# Altium footprint library Common-Parts-Library.PcbLib: 530 footprints (part 24 of 34)
Each footprint in its own frame and in the unit in brackets; x right, y up, seen from the top. Pads: shape width x height; smd on the part's side, far side on the other; paste and mask are expansions set on the pad; w line width, h text height; cw(c..) or ccw(c..) is an arc to the next point about the centre after c.
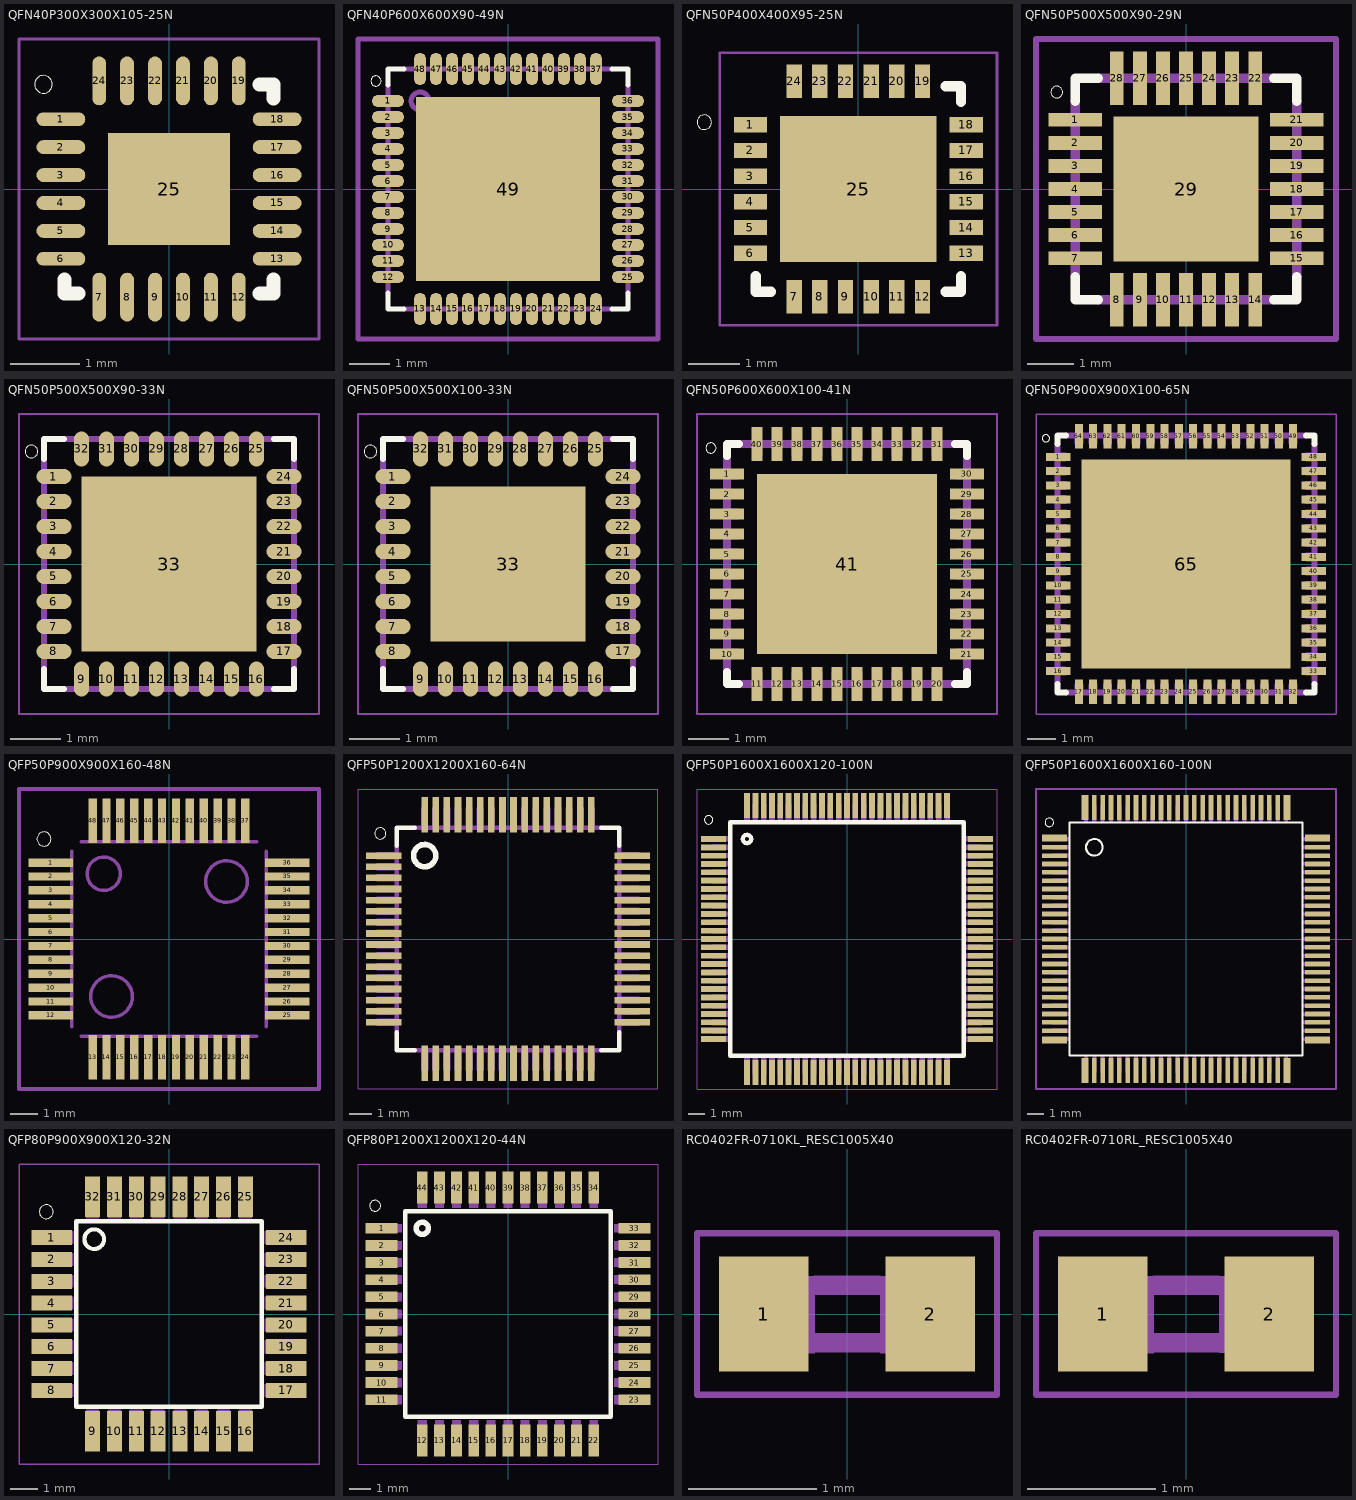
[diagram p23: the footprints below, top view; thin cyan lines are the x and y axes]

## QFN40P300X300X105-25N [mm]
pads (25):
  oval 0.7x0.2 smd: 1(-1.55,1) 2(-1.55,0.6) 3(-1.55,0.2) 4(-1.55,-0.2) 5(-1.55,-0.6) 6(-1.55,-1) 13(1.55,-1) 14(1.55,-0.6) 15(1.55,-0.2) 16(1.55,0.2) 17(1.55,0.6) 18(1.55,1)
  oval 0.2x0.7 smd: 7(-1,-1.55) 8(-0.6,-1.55) 9(-0.2,-1.55) 10(0.2,-1.55) 11(0.6,-1.55) 12(1,-1.55) 19(1,1.55) 20(0.6,1.55) 21(0.2,1.55) 22(-0.2,1.55) 23(-0.6,1.55) 24(-1,1.55)
  rect 1.75x1.6 smd: 25(0,0)
Top Overlay:
  circle w0: c-1.8,1.5 r0.127
  lines w0.2: -1.5,-1.3 -1.5,-1.5 -1.3,-1.5 ; 1.3,-1.5 1.5,-1.5 1.5,-1.3 ; 1.3,1.5 1.5,1.5 1.5,1.3
Top Paste:
  region: -0.576,0.475 0.575,0.475 0.575,-0.476 -0.576,-0.476
Mechanical 1:
  lines w0.05: -2.15,-2.15 -2.15,2.15 2.15,2.15 2.15,-2.15 -2.15,-2.15

## QFN40P600X600X90-49N [mm]
pads (49):
  oval 0.8x0.3 smd: 1(-3,2.2) 2(-3,1.8) 3(-3,1.4) 4(-3,1) 5(-3,0.6) 6(-3,0.2) 7(-3,-0.2) 8(-3,-0.6) 9(-3,-1) 10(-3,-1.4) 11(-3,-1.8) 12(-3,-2.2) 25(3,-2.2) 26(3,-1.8) 27(3,-1.4) 28(3,-1) 29(3,-0.6) 30(3,-0.2) 31(3,0.2) 32(3,0.6) 33(3,1) 34(3,1.4) 35(3,1.8) 36(3,2.2)
  oval 0.3x0.8 smd: 13(-2.2,-3) 14(-1.8,-3) 15(-1.4,-3) 16(-1,-3) 17(-0.6,-3) 18(-0.2,-3) 19(0.2,-3) 20(0.6,-3) 21(1,-3) 22(1.4,-3) 23(1.8,-3) 24(2.2,-3) 37(2.2,3) 38(1.8,3) 39(1.4,3) 40(1,3) 41(0.6,3) 42(0.2,3) 43(-0.2,3) 44(-0.6,3) 45(-1,3) 46(-1.4,3) 47(-1.8,3) 48(-2.2,3)
  rect 4.6x4.6 smd: 49(0,0)
Top Overlay:
  circle w0: c-3.3,2.7 r0.127
  lines w0.127: -3,-2.6 -3,-3 -2.6,-3 ; -3,2.6 -3,3 -2.6,3 ; 2.6,-3 3,-3 3,-2.6 ; 2.6,3 3,3 3,2.6
Top Paste:
  region: -1.454,1.45 1.45,1.45 1.45,-1.454 -1.454,-1.454
Top Solder:
  drawing of 48 lines, arcs and shapes, not listed
Mechanical 1:
  drawing of 57 lines, arcs and shapes, not listed

## QFN50P400X400X95-25N [mm]
pads (25):
  rect 0.65x0.3 smd: 1(-2.1,1.25) 2(-2.1,0.75) 3(-2.1,0.25) 4(-2.1,-0.25) 5(-2.1,-0.75) 6(-2.1,-1.25) 13(2.1,-1.25) 14(2.1,-0.75) 15(2.1,-0.25) 16(2.1,0.25) 17(2.1,0.75) 18(2.1,1.25)
  rect 0.3x0.65 smd: 7(-1.25,-2.1) 8(-0.75,-2.1) 9(-0.25,-2.1) 10(0.25,-2.1) 11(0.75,-2.1) 12(1.25,-2.1) 19(1.25,2.1) 20(0.75,2.1) 21(0.25,2.1) 22(-0.25,2.1) 23(-0.75,2.1) 24(-1.25,2.1)
  rect 3.05x2.85 smd: 25(0,0)
Top Overlay:
  circle w0: c-3,1.3 r0.141
  lines w0.2: -2,-1.7 -2,-2 -1.7,-2 ; 1.7,-2 2,-2 2,-1.7 ; 1.7,2 2,2 2,1.7
Top Paste:
  region: -0.992,0.89 0.99,0.89 0.99,-0.892 -0.992,-0.892
Mechanical 1:
  lines w0.05: -2.7,-2.65 -2.7,2.65 2.7,2.65 2.7,-2.65 -2.7,-2.65

## QFN50P500X500X90-29N [mm]
pads (29):
  rect 1.15x0.3 smd: 1(-2.4,1.5) 2(-2.4,1) 3(-2.4,0.5) 4(-2.4,0) 5(-2.4,-0.5) 6(-2.4,-1) 7(-2.4,-1.5) 15(2.4,-1.5) 16(2.4,-1) 17(2.4,-0.5) 18(2.4,0) 19(2.4,0.5) 20(2.4,1) 21(2.4,1.5)
  rect 0.3x1.15 smd: 8(-1.5,-2.4) 9(-1,-2.4) 10(-0.5,-2.4) 11(0,-2.4) 12(0.5,-2.4) 13(1,-2.4) 14(1.5,-2.4) 22(1.5,2.4) 23(1,2.4) 24(0.5,2.4) 25(0,2.4) 26(-0.5,2.4) 27(-1,2.4) 28(-1.5,2.4)
  rect 3.15x3.15 smd: 29(0,0)
Top Overlay:
  circle w0: c-2.8,2.1 r0.127
  lines w0.203: -2.398,-1.902 -2.398,-2.398 -1.902,-2.398 ; -2.398,1.902 -2.398,2.398 -1.902,2.398 ; 1.902,-2.398 2.398,-2.398 2.398,-1.902 ; 1.902,2.398 2.398,2.398 2.398,1.902
Top Paste:
  region: -1.003,1 1,1 1,-1.003 -1.003,-1.003
Top Solder:
  region: -1.7,1.775 -1.7,3.03 -1.305,3.03 -1.305,1.775
  region: -1.2,1.775 -1.2,3.027 -0.802,3.027 -0.802,1.775
  region: -0.7,1.775 -0.7,3.026 -0.301,3.026 -0.301,1.775
  region: -0.199,1.776 -0.199,3.028 0.197,3.028 0.197,1.776
  region: 0.304,1.779 0.304,3.029 0.696,3.029 0.696,1.779
  region: 0.802,1.777 0.802,3.026 1.199,3.026 1.199,1.777
  region: 1.303,1.778 1.303,3.026 1.699,3.026 1.699,1.778
  region: 3.025,-1.7 1.775,-1.7 1.775,-1.3 3.025,-1.3
  region: 3.025,-1.201 1.776,-1.201 1.776,-0.8 3.025,-0.8
  region: 3.025,-0.702 1.779,-0.702 1.779,-0.3 3.025,-0.3
  region: 3.025,-0.201 1.78,-0.201 1.78,0.2 3.025,0.2
  region: 3.025,0.3 1.776,0.3 1.776,0.7 3.025,0.7
  region: 3.025,0.802 1.779,0.802 1.779,1.2 3.025,1.2
  region: 3.025,1.303 1.779,1.303 1.779,1.7 3.025,1.7
  region: -1.704,-3.029 -1.704,-1.775 -1.3,-1.775 -1.3,-3.029
  region: -1.207,-3.032 -1.207,-1.777 -0.798,-1.777 -0.798,-3.032
  region: -0.707,-3.032 -0.707,-1.778 -0.297,-1.778 -0.297,-3.032
  region: -0.202,-3.027 -0.202,-1.776 0.201,-1.776 0.201,-3.027
  region: 0.298,-3.027 0.298,-1.777 0.702,-1.777 0.702,-3.027
  region: 0.798,-3.027 0.798,-1.778 1.203,-1.778 1.203,-3.027
  region: 1.298,-3.027 1.298,-1.779 1.704,-1.779 1.704,-3.027
  region: -3.027,1.7 -1.775,1.7 -1.775,1.301 -3.027,1.301
  region: -3.029,1.2 -1.775,1.2 -1.775,0.801 -3.029,0.801
  region: -3.03,0.7 -1.775,0.7 -1.775,0.3 -3.03,0.3
  region: -3.029,0.2 -1.775,0.2 -1.775,-0.2 -3.029,-0.2
  region: -3.034,-0.3 -1.775,-0.3 -1.775,-0.702 -3.034,-0.702
  region: -3.031,-0.8 -1.775,-0.8 -1.775,-1.203 -3.031,-1.203
  region: -3.034,-1.3 -1.775,-1.3 -1.775,-1.705 -3.034,-1.705
Mechanical 1:
  lines w0.127: -3.25,-3.25 -3.25,3.25 3.25,3.25 3.25,-3.25 -3.25,-3.25
  lines w0.203: -2.4,-1.9 -2.4,1.9 ; -1.9,-2.4 1.9,-2.4 ; -1.9,2.4 1.9,2.4 ; 2.4,-1.9 2.4,1.9

## QFN50P500X500X90-33N [mm]
pads (33):
  oval 0.7x0.3 smd: 1(-2.3,1.75) 2(-2.3,1.25) 3(-2.3,0.75) 4(-2.3,0.25) 5(-2.3,-0.25) 6(-2.3,-0.75) 7(-2.3,-1.25) 8(-2.3,-1.75) 17(2.3,-1.75) 18(2.3,-1.25) 19(2.3,-0.75) 20(2.3,-0.25) 21(2.3,0.25) 22(2.3,0.75) 23(2.3,1.25) 24(2.3,1.75)
  oval 0.3x0.7 smd: 9(-1.75,-2.3) 10(-1.25,-2.3) 11(-0.75,-2.3) 12(-0.25,-2.3) 13(0.25,-2.3) 14(0.75,-2.3) 15(1.25,-2.3) 16(1.75,-2.3) 25(1.75,2.3) 26(1.25,2.3) 27(0.75,2.3) 28(0.25,2.3) 29(-0.25,2.3) 30(-0.75,2.3) 31(-1.25,2.3) 32(-1.75,2.3)
  rect 3.5x3.5 smd: 33(0,0)
Top Overlay:
  circle w0: c-2.75,2.25 r0.127
  lines w0.127: -2.5,-2.1 -2.5,-2.5 -2.1,-2.5 ; -2.5,2.1 -2.5,2.5 -2.1,2.5 ; 2.1,-2.5 2.5,-2.5 2.5,-2.1 ; 2.1,2.5 2.5,2.5 2.5,2.1
Top Paste:
  region: -1.102,1.1 1.1,1.1 1.1,-1.102 -1.102,-1.102
Top Solder:
  lines w0.254: -2.499,-1.749 -2.099,-1.749 ; -2.499,-1.249 -2.099,-1.249 ; -2.499,-0.749 -2.099,-0.749 ; -2.499,-0.249 -2.099,-0.249 ; -2.499,0.251 -2.099,0.251 ; -2.499,0.751 -2.099,0.751 ; -2.499,1.251 -2.099,1.251 ; -2.499,1.751 -2.099,1.751 ; -1.749,-2.499 -1.749,-2.099 ; -1.749,2.101 -1.749,2.501 ; -1.249,-2.499 -1.249,-2.099 ; -1.249,2.101 -1.249,2.501 ; -0.749,-2.499 -0.749,-2.099 ; -0.749,2.101 -0.749,2.501 ; -0.249,-2.499 -0.249,-2.099 ; -0.249,2.101 -0.249,2.501 ; 0.251,-2.499 0.251,-2.099 ; 0.251,2.101 0.251,2.501 ; 0.751,-2.499 0.751,-2.099 ; 0.751,2.101 0.751,2.501 ; 1.251,-2.499 1.251,-2.099 ; 1.251,2.101 1.251,2.501 ; 1.751,-2.499 1.751,-2.099 ; 1.751,2.101 1.751,2.501 ; 2.101,-1.749 2.501,-1.749 ; 2.101,-1.249 2.501,-1.249 ; 2.101,-0.749 2.501,-0.749 ; 2.101,-0.249 2.501,-0.249 ; 2.101,0.251 2.501,0.251 ; 2.101,0.751 2.501,0.751 ; 2.101,1.251 2.501,1.251 ; 2.101,1.751 2.501,1.751
Mechanical 1:
  circle w0.05: c-1.499,1.501 r0.1
  lines w0.05: -3,-3 -3,3 3,3 3,-3 -3,-3
  lines w0.127: -2.499,-2.149 -2.499,2.151 ; -2.149,-2.499 2.151,-2.499 ; -2.149,2.501 2.151,2.501 ; 2.501,-2.149 2.501,2.151
  lines w0.23: -2.424,-1.749 -2.199,-1.749 ; -2.424,-1.249 -2.199,-1.249 ; -2.424,-0.749 -2.199,-0.749 ; -2.424,-0.249 -2.199,-0.249 ; -2.424,0.251 -2.199,0.251 ; -2.424,0.751 -2.199,0.751 ; -2.424,1.251 -2.199,1.251 ; -2.424,1.751 -2.199,1.751 ; -1.749,-2.424 -1.749,-2.199 ; -1.749,2.201 -1.749,2.426 ; -1.249,-2.424 -1.249,-2.199 ; -1.249,2.201 -1.249,2.426 ; -0.749,-2.424 -0.749,-2.199 ; -0.749,2.201 -0.749,2.426 ; -0.249,-2.424 -0.249,-2.199 ; -0.249,2.201 -0.249,2.426 ; 0.251,-2.424 0.251,-2.199 ; 0.251,2.201 0.251,2.426 ; 0.751,-2.424 0.751,-2.199 ; 0.751,2.201 0.751,2.426 ; 1.251,-2.424 1.251,-2.199 ; 1.251,2.201 1.251,2.426 ; 1.751,-2.424 1.751,-2.199 ; 1.751,2.201 1.751,2.426 ; 2.201,-1.749 2.426,-1.749 ; 2.201,-1.249 2.426,-1.249 ; 2.201,-0.749 2.426,-0.749 ; 2.201,-0.249 2.426,-0.249 ; 2.201,0.251 2.426,0.251 ; 2.201,0.751 2.426,0.751 ; 2.201,1.251 2.426,1.251 ; 2.201,1.751 2.426,1.751

## QFN50P500X500X100-33N [mm]
pads (33):
  oval 0.7x0.3 smd: 1(-2.3,1.75) 2(-2.3,1.25) 3(-2.3,0.75) 4(-2.3,0.25) 5(-2.3,-0.25) 6(-2.3,-0.75) 7(-2.3,-1.25) 8(-2.3,-1.75) 17(2.3,-1.75) 18(2.3,-1.25) 19(2.3,-0.75) 20(2.3,-0.25) 21(2.3,0.25) 22(2.3,0.75) 23(2.3,1.25) 24(2.3,1.75)
  oval 0.3x0.7 smd: 9(-1.75,-2.3) 10(-1.25,-2.3) 11(-0.75,-2.3) 12(-0.25,-2.3) 13(0.25,-2.3) 14(0.75,-2.3) 15(1.25,-2.3) 16(1.75,-2.3) 25(1.75,2.3) 26(1.25,2.3) 27(0.75,2.3) 28(0.25,2.3) 29(-0.25,2.3) 30(-0.75,2.3) 31(-1.25,2.3) 32(-1.75,2.3)
  rect 3.1x3.1 smd: 33(0,0)
Top Overlay:
  circle w0: c-2.75,2.25 r0.127
  lines w0.127: -2.5,-2.1 -2.5,-2.5 -2.1,-2.5 ; -2.5,2.1 -2.5,2.5 -2.1,2.5 ; 2.1,-2.5 2.5,-2.5 2.5,-2.1 ; 2.1,2.5 2.5,2.5 2.5,2.1
Top Paste:
  region: -0.983,0.98 0.98,0.98 0.98,-0.983 -0.983,-0.983
Top Solder:
  lines w0.254: -2.499,-1.749 -2.099,-1.749 ; -2.499,-1.249 -2.099,-1.249 ; -2.499,-0.749 -2.099,-0.749 ; -2.499,-0.249 -2.099,-0.249 ; -2.499,0.251 -2.099,0.251 ; -2.499,0.751 -2.099,0.751 ; -2.499,1.251 -2.099,1.251 ; -2.499,1.751 -2.099,1.751 ; -1.749,-2.499 -1.749,-2.099 ; -1.749,2.101 -1.749,2.501 ; -1.249,-2.499 -1.249,-2.099 ; -1.249,2.101 -1.249,2.501 ; -0.749,-2.499 -0.749,-2.099 ; -0.749,2.101 -0.749,2.501 ; -0.249,-2.499 -0.249,-2.099 ; -0.249,2.101 -0.249,2.501 ; 0.251,-2.499 0.251,-2.099 ; 0.251,2.101 0.251,2.501 ; 0.751,-2.499 0.751,-2.099 ; 0.751,2.101 0.751,2.501 ; 1.251,-2.499 1.251,-2.099 ; 1.251,2.101 1.251,2.501 ; 1.751,-2.499 1.751,-2.099 ; 1.751,2.101 1.751,2.501 ; 2.101,-1.749 2.501,-1.749 ; 2.101,-1.249 2.501,-1.249 ; 2.101,-0.749 2.501,-0.749 ; 2.101,-0.249 2.501,-0.249 ; 2.101,0.251 2.501,0.251 ; 2.101,0.751 2.501,0.751 ; 2.101,1.251 2.501,1.251 ; 2.101,1.751 2.501,1.751
Mechanical 1:
  lines w0.05: -3,-3 -3,3 3,3 3,-3 -3,-3
  lines w0.127: -2.499,-2.149 -2.499,2.151 ; -2.149,-2.499 2.151,-2.499 ; -2.149,2.501 2.151,2.501 ; 2.501,-2.149 2.501,2.151
  lines w0.23: -2.424,-1.749 -2.199,-1.749 ; -2.424,-1.249 -2.199,-1.249 ; -2.424,-0.749 -2.199,-0.749 ; -2.424,-0.249 -2.199,-0.249 ; -2.424,0.251 -2.199,0.251 ; -2.424,0.751 -2.199,0.751 ; -2.424,1.251 -2.199,1.251 ; -2.424,1.751 -2.199,1.751 ; -1.749,-2.424 -1.749,-2.199 ; -1.749,2.201 -1.749,2.426 ; -1.249,-2.424 -1.249,-2.199 ; -1.249,2.201 -1.249,2.426 ; -0.749,-2.424 -0.749,-2.199 ; -0.749,2.201 -0.749,2.426 ; -0.249,-2.424 -0.249,-2.199 ; -0.249,2.201 -0.249,2.426 ; 0.251,-2.424 0.251,-2.199 ; 0.251,2.201 0.251,2.426 ; 0.751,-2.424 0.751,-2.199 ; 0.751,2.201 0.751,2.426 ; 1.251,-2.424 1.251,-2.199 ; 1.251,2.201 1.251,2.426 ; 1.751,-2.424 1.751,-2.199 ; 1.751,2.201 1.751,2.426 ; 2.201,-1.749 2.426,-1.749 ; 2.201,-1.249 2.426,-1.249 ; 2.201,-0.749 2.426,-0.749 ; 2.201,-0.249 2.426,-0.249 ; 2.201,0.251 2.426,0.251 ; 2.201,0.751 2.426,0.751 ; 2.201,1.251 2.426,1.251 ; 2.201,1.751 2.426,1.751

## QFN50P600X600X100-41N [mm]
pads (41):
  rect 0.85x0.28 smd: 1(-3,2.25) 2(-3,1.75) 3(-3,1.25) 4(-3,0.75) 5(-3,0.25) 6(-3,-0.25) 7(-3,-0.75) 8(-3,-1.25) 9(-3,-1.75) 10(-3,-2.25) 21(3,-2.25) 22(3,-1.75) 23(3,-1.25) 24(3,-0.75) 25(3,-0.25) 26(3,0.25) 27(3,0.75) 28(3,1.25) 29(3,1.75) 30(3,2.25)
  rect 0.28x0.85 smd: 11(-2.25,-3) 12(-1.75,-3) 13(-1.25,-3) 14(-0.75,-3) 15(-0.25,-3) 16(0.25,-3) 17(0.75,-3) 18(1.25,-3) 19(1.75,-3) 20(2.25,-3) 31(2.25,3) 32(1.75,3) 33(1.25,3) 34(0.75,3) 35(0.25,3) 36(-0.25,3) 37(-0.75,3) 38(-1.25,3) 39(-1.75,3) 40(-2.25,3)
  rect 4.5x4.5 smd: 41(0,0)
Top Overlay:
  circle w0: c-3.4,2.9 r0.127
  lines w0.203: -3,-2.7 -3,-3 -2.7,-3 ; -3,2.7 -3,3 -2.7,3 ; 2.7,-3 3,-3 3,-2.7 ; 2.7,3 3,3 3,2.7
Top Paste:
  region: -1.428,1.425 1.425,1.425 1.425,-1.428 -1.428,-1.428
Mechanical 1:
  drawing of 48 lines, arcs and shapes, not listed

## QFN50P900X900X100-65N [mm]
pads (65):
  rect 0.85x0.28 smd: 1(-4.475,3.75) 2(-4.475,3.25) 3(-4.475,2.75) 4(-4.475,2.25) 5(-4.475,1.75) 6(-4.475,1.25) 7(-4.475,0.75) 8(-4.475,0.25) 9(-4.475,-0.25) 10(-4.475,-0.75) 11(-4.475,-1.25) 12(-4.475,-1.75) 13(-4.475,-2.25) 14(-4.475,-2.75) 15(-4.475,-3.25) 16(-4.475,-3.75) 33(4.475,-3.75) 34(4.475,-3.25) 35(4.475,-2.75) 36(4.475,-2.25) 37(4.475,-1.75) 38(4.475,-1.25) 39(4.475,-0.75) 40(4.475,-0.25) 41(4.475,0.25) 42(4.475,0.75) 43(4.475,1.25) 44(4.475,1.75) 45(4.475,2.25) 46(4.475,2.75) 47(4.475,3.25) 48(4.475,3.75)
  rect 0.28x0.85 smd: 17(-3.75,-4.475) 18(-3.25,-4.475) 19(-2.75,-4.475) 20(-2.25,-4.475) 21(-1.75,-4.475) 22(-1.25,-4.475) 23(-0.75,-4.475) 24(-0.25,-4.475) 25(0.25,-4.475) 26(0.75,-4.475) 27(1.25,-4.475) 28(1.75,-4.475) 29(2.25,-4.475) 30(2.75,-4.475) 31(3.25,-4.475) 32(3.75,-4.475) 49(3.75,4.475) 50(3.25,4.475) 51(2.75,4.475) 52(2.25,4.475) 53(1.75,4.475) 54(1.25,4.475) 55(0.75,4.475) 56(0.25,4.475) 57(-0.25,4.475) 58(-0.75,4.475) 59(-1.25,4.475) 60(-1.75,4.475) 61(-2.25,4.475) 62(-2.75,4.475) 63(-3.25,4.475) 64(-3.75,4.475)
  rect 7.3x7.3 smd: 65(0,0)
Top Overlay:
  circle w0: c-4.9,4.4 r0.127
  lines w0.203: -4.5,-4.2 -4.5,-4.5 -4.2,-4.5 ; -4.5,4.2 -4.5,4.5 -4.2,4.5 ; 4.2,-4.5 4.5,-4.5 4.5,-4.2 ; 4.2,4.5 4.5,4.5 4.5,4.2
Top Paste:
  region: -2.305,2.3 2.3,2.3 2.3,-2.305 -2.305,-2.305
Mechanical 1:
  drawing of 72 lines, arcs and shapes, not listed

## QFP50P900X900X160-48N [mm]
pads (48):
  rect 1.6x0.3 smd: 1(-4.25,2.75) 2(-4.25,2.25) 3(-4.25,1.75) 4(-4.25,1.25) 5(-4.25,0.75) 6(-4.25,0.25) 7(-4.25,-0.25) 8(-4.25,-0.75) 9(-4.25,-1.25) 10(-4.25,-1.75) 11(-4.25,-2.25) 12(-4.25,-2.75) 25(4.25,-2.75) 26(4.25,-2.25) 27(4.25,-1.75) 28(4.25,-1.25) 29(4.25,-0.75) 30(4.25,-0.25) 31(4.25,0.25) 32(4.25,0.75) 33(4.25,1.25) 34(4.25,1.75) 35(4.25,2.25) 36(4.25,2.75)
  rect 0.3x1.6 smd: 13(-2.75,-4.25) 14(-2.25,-4.25) 15(-1.75,-4.25) 16(-1.25,-4.25) 17(-0.75,-4.25) 18(-0.25,-4.25) 19(0.25,-4.25) 20(0.75,-4.25) 21(1.25,-4.25) 22(1.75,-4.25) 23(2.25,-4.25) 24(2.75,-4.25) 37(2.75,4.25) 38(2.25,4.25) 39(1.75,4.25) 40(1.25,4.25) 41(0.75,4.25) 42(0.25,4.25) 43(-0.25,4.25) 44(-0.75,4.25) 45(-1.25,4.25) 46(-1.75,4.25) 47(-2.25,4.25) 48(-2.75,4.25)
Top Overlay:
  circle w0: c-4.5,3.6 r0.254
Top Solder:
  drawing of 48 lines, arcs and shapes, not listed
Mechanical 1:
  drawing of 59 lines, arcs and shapes, not listed

## QFP50P1200X1200X160-64N [mm]
pads (64):
  rect 1.6x0.3 smd: 1(-5.6,3.75) 2(-5.6,3.25) 3(-5.6,2.75) 4(-5.6,2.25) 5(-5.6,1.75) 6(-5.6,1.25) 7(-5.6,0.75) 8(-5.6,0.25) 9(-5.6,-0.25) 10(-5.6,-0.75) 11(-5.6,-1.25) 12(-5.6,-1.75) 13(-5.6,-2.25) 14(-5.6,-2.75) 15(-5.6,-3.25) 16(-5.6,-3.75) 33(5.6,-3.75) 34(5.6,-3.25) 35(5.6,-2.75) 36(5.6,-2.25) 37(5.6,-1.75) 38(5.6,-1.25) 39(5.6,-0.75) 40(5.6,-0.25) 41(5.6,0.25) 42(5.6,0.75) 43(5.6,1.25) 44(5.6,1.75) 45(5.6,2.25) 46(5.6,2.75) 47(5.6,3.25) 48(5.6,3.75)
  rect 0.3x1.6 smd: 17(-3.75,-5.6) 18(-3.25,-5.6) 19(-2.75,-5.6) 20(-2.25,-5.6) 21(-1.75,-5.6) 22(-1.25,-5.6) 23(-0.75,-5.6) 24(-0.25,-5.6) 25(0.25,-5.6) 26(0.75,-5.6) 27(1.25,-5.6) 28(1.75,-5.6) 29(2.25,-5.6) 30(2.75,-5.6) 31(3.25,-5.6) 32(3.75,-5.6) 49(3.75,5.6) 50(3.25,5.6) 51(2.75,5.6) 52(2.25,5.6) 53(1.75,5.6) 54(1.25,5.6) 55(0.75,5.6) 56(0.25,5.6) 57(-0.25,5.6) 58(-0.75,5.6) 59(-1.25,5.6) 60(-1.75,5.6) 61(-2.25,5.6) 62(-2.75,5.6) 63(-3.25,5.6) 64(-3.75,5.6)
Top Overlay:
  circle w0: c-5.75,4.75 r0.254
  circle w0.254: c-3.75,3.75 r0.5
  lines w0.203: -5,-4.2 -5,-5 -4.2,-5 ; -5,4.2 -5,5 -4.2,5 ; 4.2,-5 5,-5 5,-4.2 ; 4.2,5 5,5 5,4.2
Mechanical 1:
  drawing of 72 lines, arcs and shapes, not listed

## QFP50P1600X1600X120-100N [mm]
pads (100):
  rect 1.5x0.35 smd: 1(-8,6) 2(-8,5.5) 3(-8,5) 4(-8,4.5) 5(-8,4) 6(-8,3.5) 7(-8,3) 8(-8,2.5) 9(-8,2) 10(-8,1.5) 11(-8,1) 12(-8,0.5) 13(-8,0) 14(-8,-0.5) 15(-8,-1) 16(-8,-1.5) 17(-8,-2) 18(-8,-2.5) 19(-8,-3) 20(-8,-3.5) 21(-8,-4) 22(-8,-4.5) 23(-8,-5) 24(-8,-5.5) 25(-8,-6) 51(8,-6) 52(8,-5.5) 53(8,-5) 54(8,-4.5) 55(8,-4) 56(8,-3.5) 57(8,-3) 58(8,-2.5) 59(8,-2) 60(8,-1.5) 61(8,-1) 62(8,-0.5) 63(8,0) 64(8,0.5) 65(8,1) 66(8,1.5) 67(8,2) 68(8,2.5) 69(8,3) 70(8,3.5) 71(8,4) 72(8,4.5) 73(8,5) 74(8,5.5) 75(8,6)
  rect 0.35x1.5 smd: 26(-6,-8) 27(-5.5,-8) 28(-5,-8) 29(-4.5,-8) 30(-4,-8) 31(-3.5,-8) 32(-3,-8) 33(-2.5,-8) 34(-2,-8) 35(-1.5,-8) 36(-1,-8) 37(-0.5,-8) 38(0,-8) 39(0.5,-8) 40(1,-8) 41(1.5,-8) 42(2,-8) 43(2.5,-8) 44(3,-8) 45(3.5,-8) 46(4,-8) 47(4.5,-8) 48(5,-8) 49(5.5,-8) 50(6,-8) 76(6,8) 77(5.5,8) 78(5,8) 79(4.5,8) 80(4,8) 81(3.5,8) 82(3,8) 83(2.5,8) 84(2,8) 85(1.5,8) 86(1,8) 87(0.5,8) 88(0,8) 89(-0.5,8) 90(-1,8) 91(-1.5,8) 92(-2,8) 93(-2.5,8) 94(-3,8) 95(-3.5,8) 96(-4,8) 97(-4.5,8) 98(-5,8) 99(-5.5,8) 100(-6,8)
Top Overlay:
  circle w0: c-8.3,7.15 r0.254
  circle w0.254: c-6,6 r0.25
  lines w0.254: -7,-7 -7,7 7,7 7,-7 -7,-7
Mechanical 1:
  drawing of 104 lines, arcs and shapes, not listed

## QFP50P1600X1600X160-100N [mm]
pads (100):
  rect 1.5x0.4 smd: 1(-7.9,6.06) 25(-7.9,-6.06) 51(7.9,-6.06) 75(7.9,6.06)
  rect 1.5x0.28 smd: 2(-7.9,5.5) 3(-7.9,5) 4(-7.9,4.5) 5(-7.9,4) 6(-7.9,3.5) 7(-7.9,3) 8(-7.9,2.5) 9(-7.9,2) 10(-7.9,1.5) 11(-7.9,1) 12(-7.9,0.5) 13(-7.9,0) 14(-7.9,-0.5) 15(-7.9,-1) 16(-7.9,-1.5) 17(-7.9,-2) 18(-7.9,-2.5) 19(-7.9,-3) 20(-7.9,-3.5) 21(-7.9,-4) 22(-7.9,-4.5) 23(-7.9,-5) 24(-7.9,-5.5) 52(7.9,-5.5) 53(7.9,-5) 54(7.9,-4.5) 55(7.9,-4) 56(7.9,-3.5) 57(7.9,-3) 58(7.9,-2.5) 59(7.9,-2) 60(7.9,-1.5) 61(7.9,-1) 62(7.9,-0.5) 63(7.9,0) 64(7.9,0.5) 65(7.9,1) 66(7.9,1.5) 67(7.9,2) 68(7.9,2.5) 69(7.9,3) 70(7.9,3.5) 71(7.9,4) 72(7.9,4.5) 73(7.9,5) 74(7.9,5.5)
  rect 0.4x1.5 smd: 26(-6.06,-7.9) 50(6.06,-7.9) 76(6.06,7.9) 100(-6.06,7.9)
  rect 0.28x1.5 smd: 27(-5.5,-7.9) 28(-5,-7.9) 29(-4.5,-7.9) 30(-4,-7.9) 31(-3.5,-7.9) 32(-3,-7.9) 33(-2.5,-7.9) 34(-2,-7.9) 35(-1.5,-7.9) 36(-1,-7.9) 37(-0.5,-7.9) 38(0,-7.9) 39(0.5,-7.9) 40(1,-7.9) 41(1.5,-7.9) 42(2,-7.9) 43(2.5,-7.9) 44(3,-7.9) 45(3.5,-7.9) 46(4,-7.9) 47(4.5,-7.9) 48(5,-7.9) 49(5.5,-7.9) 77(5.5,7.9) 78(5,7.9) 79(4.5,7.9) 80(4,7.9) 81(3.5,7.9) 82(3,7.9) 83(2.5,7.9) 84(2,7.9) 85(1.5,7.9) 86(1,7.9) 87(0.5,7.9) 88(0,7.9) 89(-0.5,7.9) 90(-1,7.9) 91(-1.5,7.9) 92(-2,7.9) 93(-2.5,7.9) 94(-3,7.9) 95(-3.5,7.9) 96(-4,7.9) 97(-4.5,7.9) 98(-5,7.9) 99(-5.5,7.9)
Top Overlay:
  circle w0: c-8.2,7 r0.254
  circle w0.127: c-5.5,5.5 r0.5
  lines w0.127: -7,-7 -7,7 7,7 7,-7 -7,-7
Mechanical 1:
  drawing of 104 lines, arcs and shapes, not listed

## QFP80P900X900X120-32N [mm]
pads (32):
  rect 1.5x0.55 smd: 1(-4.3,2.8) 2(-4.3,2) 3(-4.3,1.2) 4(-4.3,0.4) 5(-4.3,-0.4) 6(-4.3,-1.2) 7(-4.3,-2) 8(-4.3,-2.8) 17(4.3,-2.8) 18(4.3,-2) 19(4.3,-1.2) 20(4.3,-0.4) 21(4.3,0.4) 22(4.3,1.2) 23(4.3,2) 24(4.3,2.8)
  rect 0.55x1.5 smd: 9(-2.8,-4.3) 10(-2,-4.3) 11(-1.2,-4.3) 12(-0.4,-4.3) 13(0.4,-4.3) 14(1.2,-4.3) 15(2,-4.3) 16(2.8,-4.3) 25(2.8,4.3) 26(2,4.3) 27(1.2,4.3) 28(0.4,4.3) 29(-0.4,4.3) 30(-1.2,4.3) 31(-2,4.3) 32(-2.8,4.3)
Top Overlay:
  circle w0: c-4.5,3.75 r0.254
  circle w0.152: c-2.743,2.743 r0.359
  lines w0.152: -3.4,-3.4 -3.4,3.4 3.4,3.4 3.4,-3.4 -3.4,-3.4
Mechanical 1:
  region: -3.035,4.497 -2.571,4.497 -2.571,3.514 -3.035,3.514
  region: -2.234,4.497 -1.771,4.497 -1.771,3.514 -2.234,3.514
  region: -1.43,4.497 -0.971,4.497 -0.971,3.509 -1.43,3.509
  region: -0.63,4.497 -0.171,4.497 -0.171,3.515 -0.63,3.515
  region: 0.171,4.497 0.629,4.497 0.629,3.507 0.171,3.507
  region: 0.973,4.497 1.429,4.497 1.429,3.512 0.973,3.512
  region: 1.776,4.497 2.229,4.497 2.229,3.515 1.776,3.515
  region: 2.579,4.497 3.029,4.497 3.029,3.517 2.579,3.517
  region: 3.515,3.029 4.497,3.029 4.497,2.578 3.515,2.578
  region: 3.511,2.229 4.497,2.229 4.497,1.774 3.511,1.774
  region: 3.515,1.429 4.497,1.429 4.497,0.974 3.515,0.974
  region: 3.51,0.629 4.497,0.629 4.497,0.172 3.51,0.172
  region: 3.515,-0.171 4.497,-0.171 4.497,-0.63 3.515,-0.63
  region: 3.515,-0.971 4.497,-0.971 4.497,-1.432 3.515,-1.432
  region: 3.516,-1.771 4.497,-1.771 4.497,-2.235 3.516,-2.235
  region: 3.508,-2.571 4.497,-2.571 4.497,-3.031 3.508,-3.031
  region: 2.577,-3.506 3.029,-3.506 3.029,-4.506 2.577,-4.506
  region: 1.777,-3.506 2.229,-3.506 2.229,-4.512 1.777,-4.512
  region: 0.972,-3.506 1.429,-3.506 1.429,-4.5 0.972,-4.5
  region: 0.172,-3.506 0.629,-3.506 0.629,-4.505 0.172,-4.505
  region: -0.629,-3.506 -0.171,-3.506 -0.171,-4.501 -0.629,-4.501
  region: -1.433,-3.506 -0.971,-3.506 -0.971,-4.511 -1.433,-4.511
  region: -2.235,-3.506 -1.771,-3.506 -1.771,-4.509 -2.235,-4.509
  region: -3.038,-3.506 -2.571,-3.506 -2.571,-4.511 -3.038,-4.511
  region: -4.508,-2.571 -3.506,-2.571 -3.506,-3.036 -4.508,-3.036
  region: -4.506,-1.771 -3.506,-1.771 -3.506,-2.233 -4.506,-2.233
  region: -4.508,-0.971 -3.506,-0.971 -3.506,-1.432 -4.508,-1.432
  region: -4.505,-0.171 -3.506,-0.171 -3.506,-0.63 -4.505,-0.63
  region: -4.501,0.629 -3.506,0.629 -3.506,0.172 -4.501,0.172
  region: -4.506,1.429 -3.506,1.429 -3.506,0.973 -4.506,0.973
  region: -4.514,2.229 -3.506,2.229 -3.506,1.778 -4.514,1.778
  region: -4.502,3.029 -3.506,3.029 -3.506,2.575 -4.502,2.575
  lines w0.05: -5.5,-5.5 -5.5,5.5 5.5,5.5 5.5,-5.5 -5.5,-5.5

## QFP80P1200X1200X120-44N [mm]
pads (44):
  rect 1.5x0.5 smd: 1(-5.9,4) 2(-5.9,3.2) 3(-5.9,2.4) 4(-5.9,1.6) 5(-5.9,0.8) 6(-5.9,0) 7(-5.9,-0.8) 8(-5.9,-1.6) 9(-5.9,-2.4) 10(-5.9,-3.2) 11(-5.9,-4) 23(5.9,-4) 24(5.9,-3.2) 25(5.9,-2.4) 26(5.9,-1.6) 27(5.9,-0.8) 28(5.9,0) 29(5.9,0.8) 30(5.9,1.6) 31(5.9,2.4) 32(5.9,3.2) 33(5.9,4)
  rect 0.5x1.5 smd: 12(-4,-5.9) 13(-3.2,-5.9) 14(-2.4,-5.9) 15(-1.6,-5.9) 16(-0.8,-5.9) 17(0,-5.9) 18(0.8,-5.9) 19(1.6,-5.9) 20(2.4,-5.9) 21(3.2,-5.9) 22(4,-5.9) 34(4,5.9) 35(3.2,5.9) 36(2.4,5.9) 37(1.6,5.9) 38(0.8,5.9) 39(0,5.9) 40(-0.8,5.9) 41(-1.6,5.9) 42(-2.4,5.9) 43(-3.2,5.9) 44(-4,5.9)
Top Overlay:
  circle w0: c-6.2,5.05 r0.254
  circle w0.254: c-4,4 r0.283
  lines w0.203: -4.8,-4.8 -4.8,4.8 4.8,4.8 4.8,-4.8 -4.8,-4.8
Mechanical 1:
  drawing of 48 lines, arcs and shapes, not listed

## RC0402FR-0710KL_RESC1005X40 [mm]
pads (2):
  rect 0.7x0.9 smd: 1(-0.65,0) 2(0.65,0)
Mechanical 1:
  region: 0.259,0.295 0.559,0.295 0.559,-0.305 0.259,-0.305
  region: -0.555,0.295 -0.254,0.295 -0.254,-0.305 -0.555,-0.305
  lines w0.051: -1.173,-0.633 -1.173,0.633 1.173,0.633 1.173,-0.633 -1.173,-0.633
  lines w0.152: -0.245,-0.224 0.245,-0.224 ; -0.245,0.224 0.245,0.224

## RC0402FR-0710RL_RESC1005X40 [mm]
pads (2):
  rect 0.7x0.9 smd: 1(-0.65,0) 2(0.65,0)
Mechanical 1:
  region: 0.259,0.295 0.559,0.295 0.559,-0.305 0.259,-0.305
  region: -0.555,0.295 -0.254,0.295 -0.254,-0.305 -0.555,-0.305
  lines w0.051: -1.173,-0.633 -1.173,0.633 1.173,0.633 1.173,-0.633 -1.173,-0.633
  lines w0.152: -0.245,-0.224 0.245,-0.224 ; -0.245,0.224 0.245,0.224